# Altium schematic symbol library Schlib1.SchLib: 218 symbols (part 3 of 3)
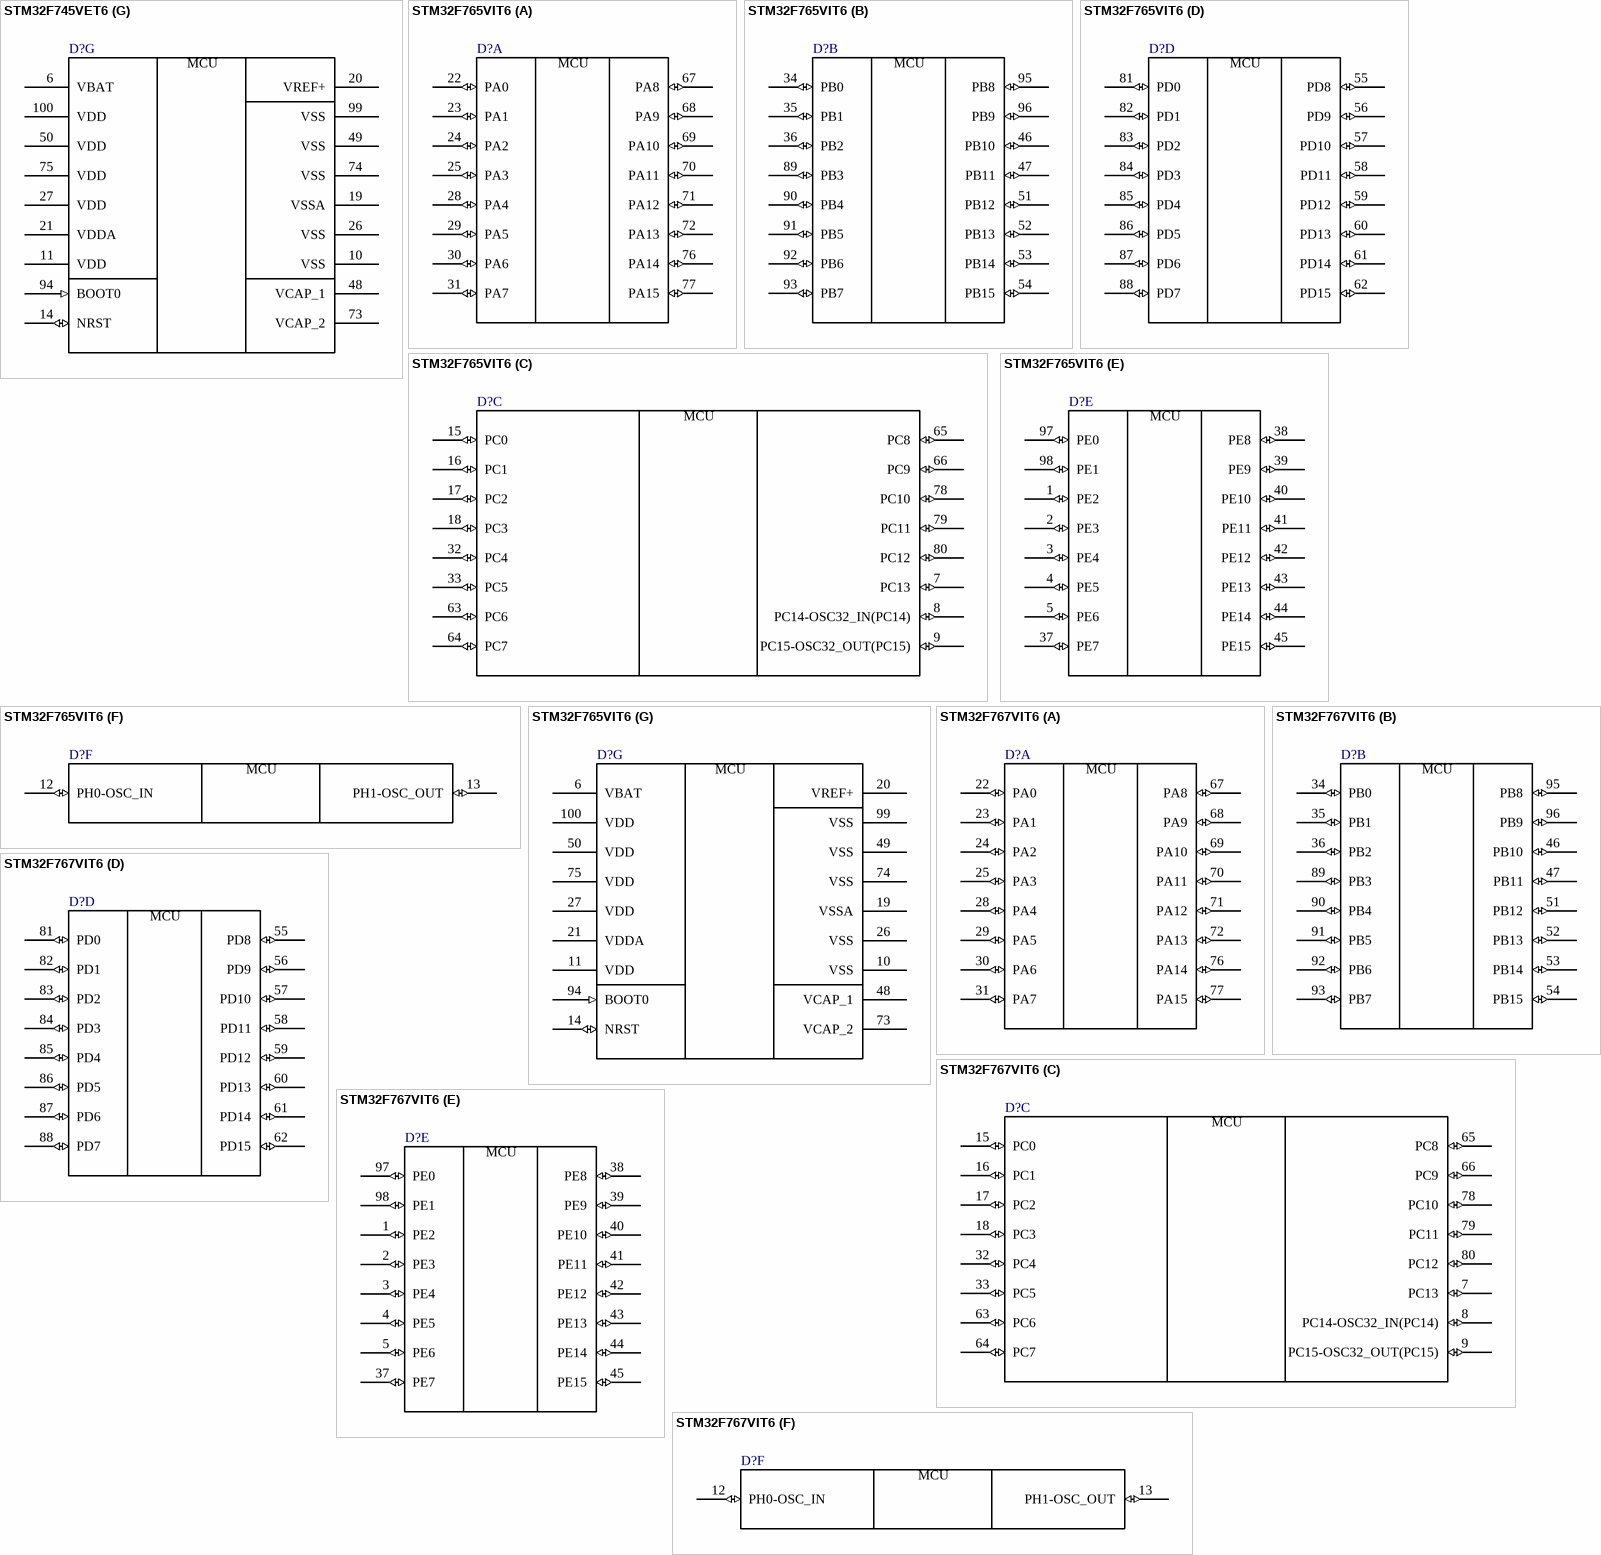
[diagram p19: symbols STM32F745VET6 to STM32F767VIT6]

## STM32F745VET6
designator D?  (value not drawn)
Cortex-M7 32b MCU+FPU, 462DMIPS; Manufacturer: STMicroelectronics; Value: STM32F745VET6
footprint STM-LQFP100 (Thin QFP, 100-Leads, Body 14x14mm, Pitch 0.5mm, IPC High Density)
part A pins: 22 PA0 (io), 23 PA1 (io), 24 PA2 (io), 25 PA3 (io), 28 PA4 (io), 29 PA5 (io), 30 PA6 (io), 31 PA7 (io), 67 PA8 (io), 68 PA9 (io), 69 PA10 (io), 70 PA11 (io), 71 PA12 (io), 72 PA13 (io), 76 PA14 (io), 77 PA15 (io)
part B pins: 34 PB0 (io), 35 PB1 (io), 36 PB2 (io), 46 PB10 (io), 47 PB11 (io), 51 PB12 (io), 52 PB13 (io), 53 PB14 (io), 54 PB15 (io), 89 PB3 (io), 90 PB4 (io), 91 PB5 (io), 92 PB6 (io), 93 PB7 (io), 95 PB8 (io), 96 PB9 (io)
part C pins: 7 PC13 (io), 8 PC14-OSC32_IN(PC14) (io), 9 PC15-OSC32_OUT(PC15) (io), 15 PC0 (io), 16 PC1 (io), 17 PC2 (io), 18 PC3 (io), 32 PC4 (io), 33 PC5 (io), 63 PC6 (io), 64 PC7 (io), 65 PC8 (io), 66 PC9 (io), 78 PC10 (io), 79 PC11 (io), 80 PC12 (io)
part D pins: 55 PD8 (io), 56 PD9 (io), 57 PD10 (io), 58 PD11 (io), 59 PD12 (io), 60 PD13 (io), 61 PD14 (io), 62 PD15 (io), 81 PD0 (io), 82 PD1 (io), 83 PD2 (io), 84 PD3 (io), 85 PD4 (io), 86 PD5 (io), 87 PD6 (io), 88 PD7 (io)
part E pins: 1 PE2 (io), 2 PE3 (io), 3 PE4 (io), 4 PE5 (io), 5 PE6 (io), 37 PE7 (io), 38 PE8 (io), 39 PE9 (io), 40 PE10 (io), 41 PE11 (io), 42 PE12 (io), 43 PE13 (io), 44 PE14 (io), 45 PE15 (io), 97 PE0 (io), 98 PE1 (io)
part F pins: 12 PH0-OSC_IN (io), 13 PH1-OSC_OUT (io)
part G pins: 6 VBAT (power) "Backup power supply", 10 VSS (power), 11 VDD (power), 14 NRST (io) "Device reset input / internal reset output (active low)", 19 VSSA (power) "Analog ground/Negative reference voltage", 20 VREF+ (power) "Positive reference voltage", 21 VDDA (power) "Analog power supply", 26 VSS (power), 27 VDD (power) "Digital power supply", 48 VCAP_1, 49 VSS (power) "Digital ground", 50 VDD (power) "Digital power supply", 73 VCAP_2, 74 VSS (power) "Ground", 75 VDD (power) "Digital power supply", 94 BOOT0 (in) "Boot memory selection", 99 VSS (power) "Ground", 100 VDD (power) "Digital power supply"
part A text: MCU
part B text: MCU
part C text: MCU
part D text: MCU
part E text: MCU
part F text: MCU
part G text: MCU

## STM32F765VIT6
designator D?  (value not drawn)
Cortex-M7 32b MCU+FPU, 462DMIPS; Manufacturer: STMicroelectronics; Value: STM32F765VIT6
footprint STM-LQFP100 (Thin QFP, 100-Leads, Body 14x14mm, Pitch 0.5mm, IPC High Density)
part A pins: 22 PA0 (io), 23 PA1 (io), 24 PA2 (io), 25 PA3 (io), 28 PA4 (io), 29 PA5 (io), 30 PA6 (io), 31 PA7 (io), 67 PA8 (io), 68 PA9 (io), 69 PA10 (io), 70 PA11 (io), 71 PA12 (io), 72 PA13 (io), 76 PA14 (io), 77 PA15 (io)
part B pins: 34 PB0 (io), 35 PB1 (io), 36 PB2 (io), 46 PB10 (io), 47 PB11 (io), 51 PB12 (io), 52 PB13 (io), 53 PB14 (io), 54 PB15 (io), 89 PB3 (io), 90 PB4 (io), 91 PB5 (io), 92 PB6 (io), 93 PB7 (io), 95 PB8 (io), 96 PB9 (io)
part C pins: 7 PC13 (io), 8 PC14-OSC32_IN(PC14) (io), 9 PC15-OSC32_OUT(PC15) (io), 15 PC0 (io), 16 PC1 (io), 17 PC2 (io), 18 PC3 (io), 32 PC4 (io), 33 PC5 (io), 63 PC6 (io), 64 PC7 (io), 65 PC8 (io), 66 PC9 (io), 78 PC10 (io), 79 PC11 (io), 80 PC12 (io)
part D pins: 55 PD8 (io), 56 PD9 (io), 57 PD10 (io), 58 PD11 (io), 59 PD12 (io), 60 PD13 (io), 61 PD14 (io), 62 PD15 (io), 81 PD0 (io), 82 PD1 (io), 83 PD2 (io), 84 PD3 (io), 85 PD4 (io), 86 PD5 (io), 87 PD6 (io), 88 PD7 (io)
part E pins: 1 PE2 (io), 2 PE3 (io), 3 PE4 (io), 4 PE5 (io), 5 PE6 (io), 37 PE7 (io), 38 PE8 (io), 39 PE9 (io), 40 PE10 (io), 41 PE11 (io), 42 PE12 (io), 43 PE13 (io), 44 PE14 (io), 45 PE15 (io), 97 PE0 (io), 98 PE1 (io)
part F pins: 12 PH0-OSC_IN (io), 13 PH1-OSC_OUT (io)
part G pins: 6 VBAT (power) "Backup power supply", 10 VSS (power), 11 VDD (power), 14 NRST (io) "Device reset input / internal reset output (active low)", 19 VSSA (power) "Analog ground/Negative reference voltage", 20 VREF+ (power) "Positive reference voltage", 21 VDDA (power) "Analog power supply", 26 VSS (power), 27 VDD (power) "Digital power supply", 48 VCAP_1, 49 VSS (power) "Digital ground", 50 VDD (power) "Digital power supply", 73 VCAP_2, 74 VSS (power) "Ground", 75 VDD (power) "Digital power supply", 94 BOOT0 (in) "Boot memory selection", 99 VSS (power) "Ground", 100 VDD (power) "Digital power supply"
part A text: MCU
part B text: MCU
part C text: MCU
part D text: MCU
part E text: MCU
part F text: MCU
part G text: MCU

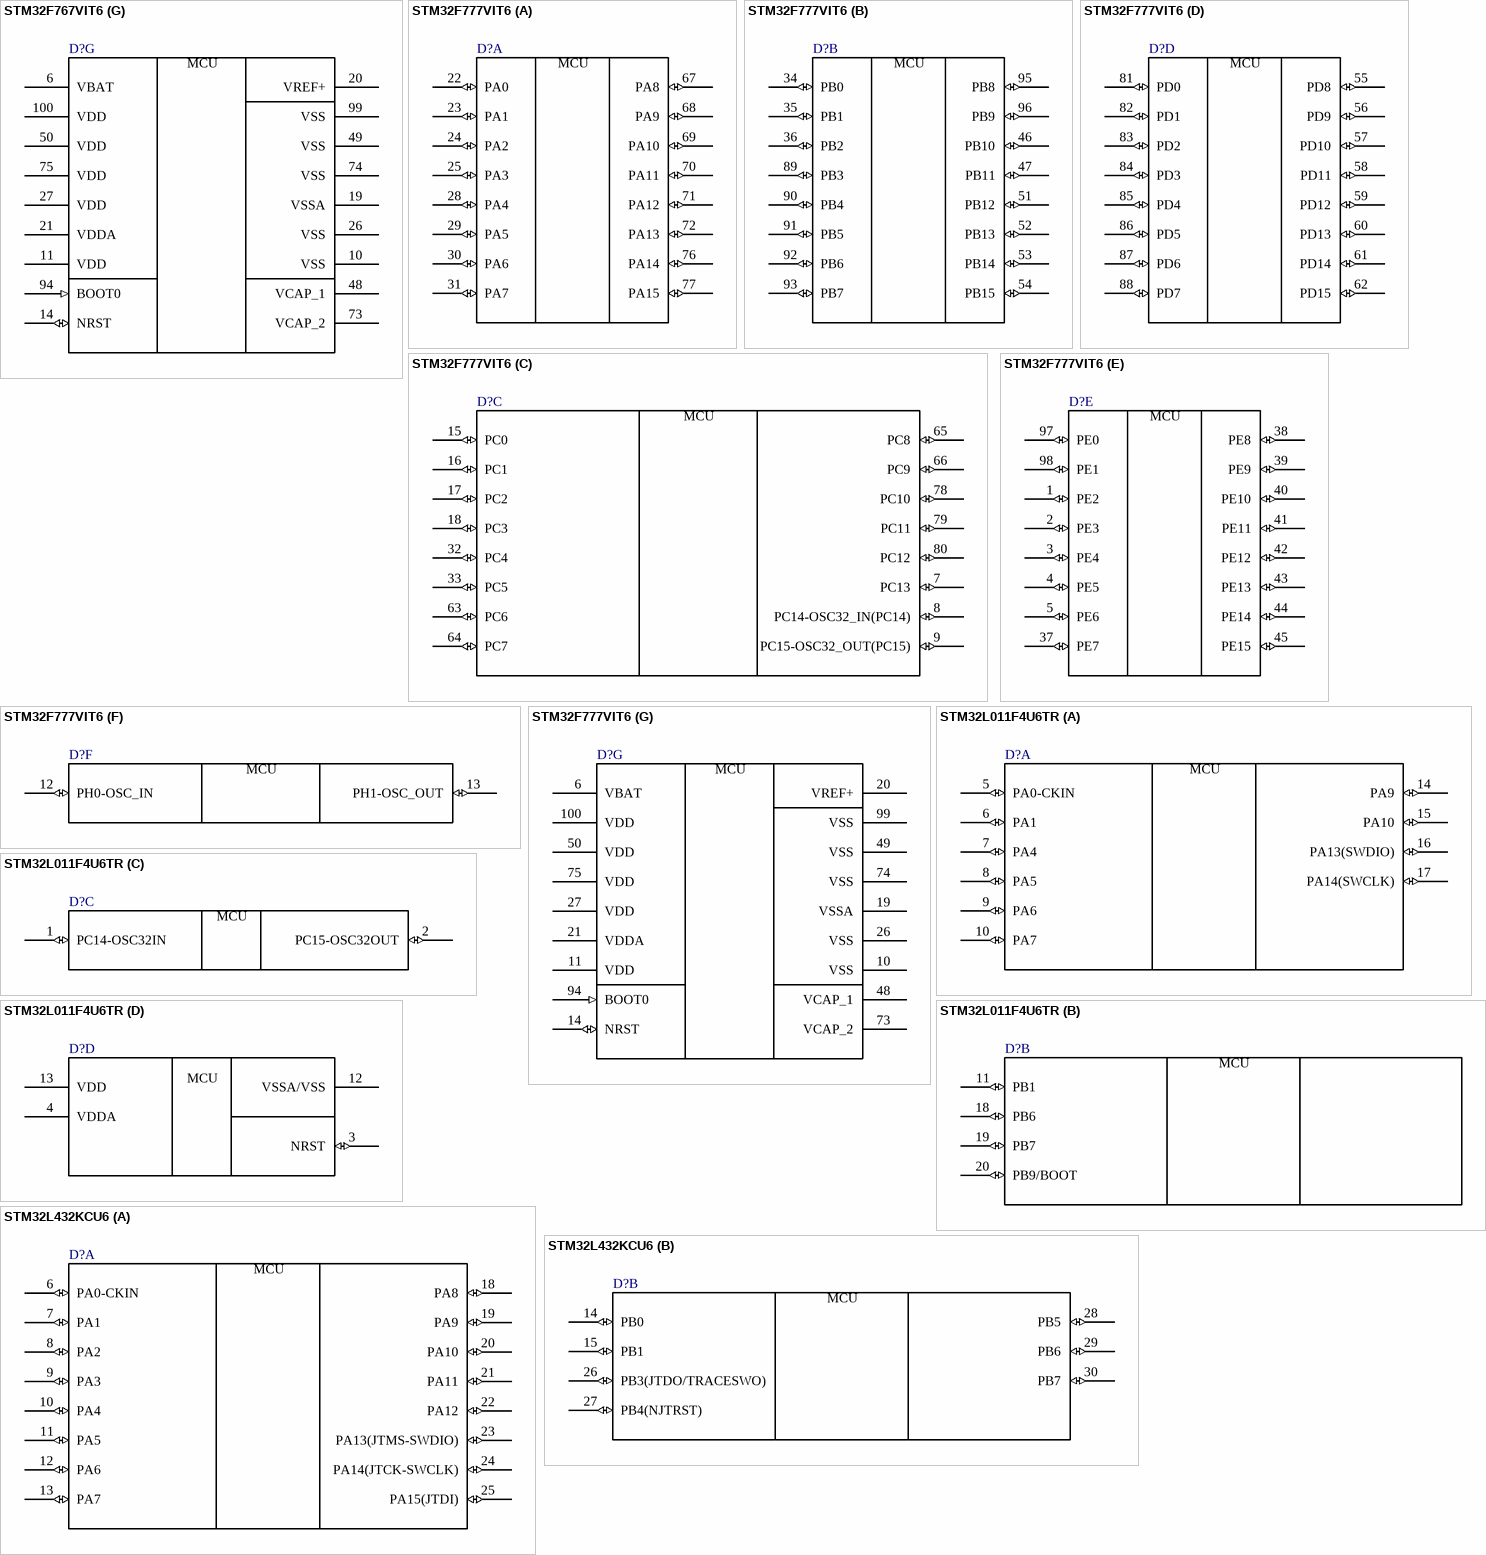
[diagram p14: symbols STM32F767VIT6 to STM32L432KCU6]

## STM32F767VIT6
designator D?  (value not drawn)
Cortex-M7 32b MCU+FPU, 462DMIPS; Manufacturer: STMicroelectronics; Value: STM32F767VIT6
footprint STM-LQFP100 (Thin QFP, 100-Leads, Body 14x14mm, Pitch 0.5mm, IPC High Density)
part A pins: 22 PA0 (io), 23 PA1 (io), 24 PA2 (io), 25 PA3 (io), 28 PA4 (io), 29 PA5 (io), 30 PA6 (io), 31 PA7 (io), 67 PA8 (io), 68 PA9 (io), 69 PA10 (io), 70 PA11 (io), 71 PA12 (io), 72 PA13 (io), 76 PA14 (io), 77 PA15 (io)
part B pins: 34 PB0 (io), 35 PB1 (io), 36 PB2 (io), 46 PB10 (io), 47 PB11 (io), 51 PB12 (io), 52 PB13 (io), 53 PB14 (io), 54 PB15 (io), 89 PB3 (io), 90 PB4 (io), 91 PB5 (io), 92 PB6 (io), 93 PB7 (io), 95 PB8 (io), 96 PB9 (io)
part C pins: 7 PC13 (io), 8 PC14-OSC32_IN(PC14) (io), 9 PC15-OSC32_OUT(PC15) (io), 15 PC0 (io), 16 PC1 (io), 17 PC2 (io), 18 PC3 (io), 32 PC4 (io), 33 PC5 (io), 63 PC6 (io), 64 PC7 (io), 65 PC8 (io), 66 PC9 (io), 78 PC10 (io), 79 PC11 (io), 80 PC12 (io)
part D pins: 55 PD8 (io), 56 PD9 (io), 57 PD10 (io), 58 PD11 (io), 59 PD12 (io), 60 PD13 (io), 61 PD14 (io), 62 PD15 (io), 81 PD0 (io), 82 PD1 (io), 83 PD2 (io), 84 PD3 (io), 85 PD4 (io), 86 PD5 (io), 87 PD6 (io), 88 PD7 (io)
part E pins: 1 PE2 (io), 2 PE3 (io), 3 PE4 (io), 4 PE5 (io), 5 PE6 (io), 37 PE7 (io), 38 PE8 (io), 39 PE9 (io), 40 PE10 (io), 41 PE11 (io), 42 PE12 (io), 43 PE13 (io), 44 PE14 (io), 45 PE15 (io), 97 PE0 (io), 98 PE1 (io)
part F pins: 12 PH0-OSC_IN (io), 13 PH1-OSC_OUT (io)
part G pins: 6 VBAT (power) "Backup power supply", 10 VSS (power), 11 VDD (power), 14 NRST (io) "Device reset input / internal reset output (active low)", 19 VSSA (power) "Analog ground/Negative reference voltage", 20 VREF+ (power) "Positive reference voltage", 21 VDDA (power) "Analog power supply", 26 VSS (power), 27 VDD (power) "Digital power supply", 48 VCAP_1, 49 VSS (power) "Digital ground", 50 VDD (power) "Digital power supply", 73 VCAP_2, 74 VSS (power) "Ground", 75 VDD (power) "Digital power supply", 94 BOOT0 (in) "Boot memory selection", 99 VSS (power) "Ground", 100 VDD (power) "Digital power supply"
part A text: MCU
part B text: MCU
part C text: MCU
part D text: MCU
part E text: MCU
part F text: MCU
part G text: MCU

## STM32F777VIT6
designator D?  (value not drawn)
Cortex-M7 32b MCU+FPU, 462DMIPS; Manufacturer: STMicroelectronics; Value: STM32F777VIT6
footprint STM-LQFP100 (Thin QFP, 100-Leads, Body 14x14mm, Pitch 0.5mm, IPC High Density)
part A pins: 22 PA0 (io), 23 PA1 (io), 24 PA2 (io), 25 PA3 (io), 28 PA4 (io), 29 PA5 (io), 30 PA6 (io), 31 PA7 (io), 67 PA8 (io), 68 PA9 (io), 69 PA10 (io), 70 PA11 (io), 71 PA12 (io), 72 PA13 (io), 76 PA14 (io), 77 PA15 (io)
part B pins: 34 PB0 (io), 35 PB1 (io), 36 PB2 (io), 46 PB10 (io), 47 PB11 (io), 51 PB12 (io), 52 PB13 (io), 53 PB14 (io), 54 PB15 (io), 89 PB3 (io), 90 PB4 (io), 91 PB5 (io), 92 PB6 (io), 93 PB7 (io), 95 PB8 (io), 96 PB9 (io)
part C pins: 7 PC13 (io), 8 PC14-OSC32_IN(PC14) (io), 9 PC15-OSC32_OUT(PC15) (io), 15 PC0 (io), 16 PC1 (io), 17 PC2 (io), 18 PC3 (io), 32 PC4 (io), 33 PC5 (io), 63 PC6 (io), 64 PC7 (io), 65 PC8 (io), 66 PC9 (io), 78 PC10 (io), 79 PC11 (io), 80 PC12 (io)
part D pins: 55 PD8 (io), 56 PD9 (io), 57 PD10 (io), 58 PD11 (io), 59 PD12 (io), 60 PD13 (io), 61 PD14 (io), 62 PD15 (io), 81 PD0 (io), 82 PD1 (io), 83 PD2 (io), 84 PD3 (io), 85 PD4 (io), 86 PD5 (io), 87 PD6 (io), 88 PD7 (io)
part E pins: 1 PE2 (io), 2 PE3 (io), 3 PE4 (io), 4 PE5 (io), 5 PE6 (io), 37 PE7 (io), 38 PE8 (io), 39 PE9 (io), 40 PE10 (io), 41 PE11 (io), 42 PE12 (io), 43 PE13 (io), 44 PE14 (io), 45 PE15 (io), 97 PE0 (io), 98 PE1 (io)
part F pins: 12 PH0-OSC_IN (io), 13 PH1-OSC_OUT (io)
part G pins: 6 VBAT (power) "Backup power supply", 10 VSS (power), 11 VDD (power), 14 NRST (io) "Device reset input / internal reset output (active low)", 19 VSSA (power) "Analog ground/Negative reference voltage", 20 VREF+ (power) "Positive reference voltage", 21 VDDA (power) "Analog power supply", 26 VSS (power), 27 VDD (power) "Digital power supply", 48 VCAP_1, 49 VSS (power) "Digital ground", 50 VDD (power) "Digital power supply", 73 VCAP_2, 74 VSS (power) "Ground", 75 VDD (power) "Digital power supply", 94 BOOT0 (in) "Boot memory selection", 99 VSS (power) "Ground", 100 VDD (power) "Digital power supply"
part A text: MCU
part B text: MCU
part C text: MCU
part D text: MCU
part E text: MCU
part F text: MCU
part G text: MCU

## STM32L011F4U6TR
designator D?  (value not drawn)
Manufacturer: STMicroelectronics; Value: STM32L011F4U6TR
footprint STM32L011F4U6TR (ST UFQFPN20)
part A pins: 5 PA0-CKIN (io), 6 PA1 (io), 7 PA4 (io), 8 PA5 (io), 9 PA6 (io), 10 PA7 (io), 14 PA9 (io), 15 PA10 (io), 16 PA13(SWDIO) (io), 17 PA14(SWCLK) (io)
part B pins: 11 PB1 (io), 18 PB6 (io), 19 PB7 (io), 20 PB9/BOOT (io)
part C pins: 1 PC14-OSC32IN (io), 2 PC15-OSC32OUT (io)
part D pins: 3 NRST (io), 4 VDDA (power), 12 VSSA/VSS (power), 13 VDD (power)
part A text: MCU
part B text: MCU
part C text: MCU
part D text: MCU

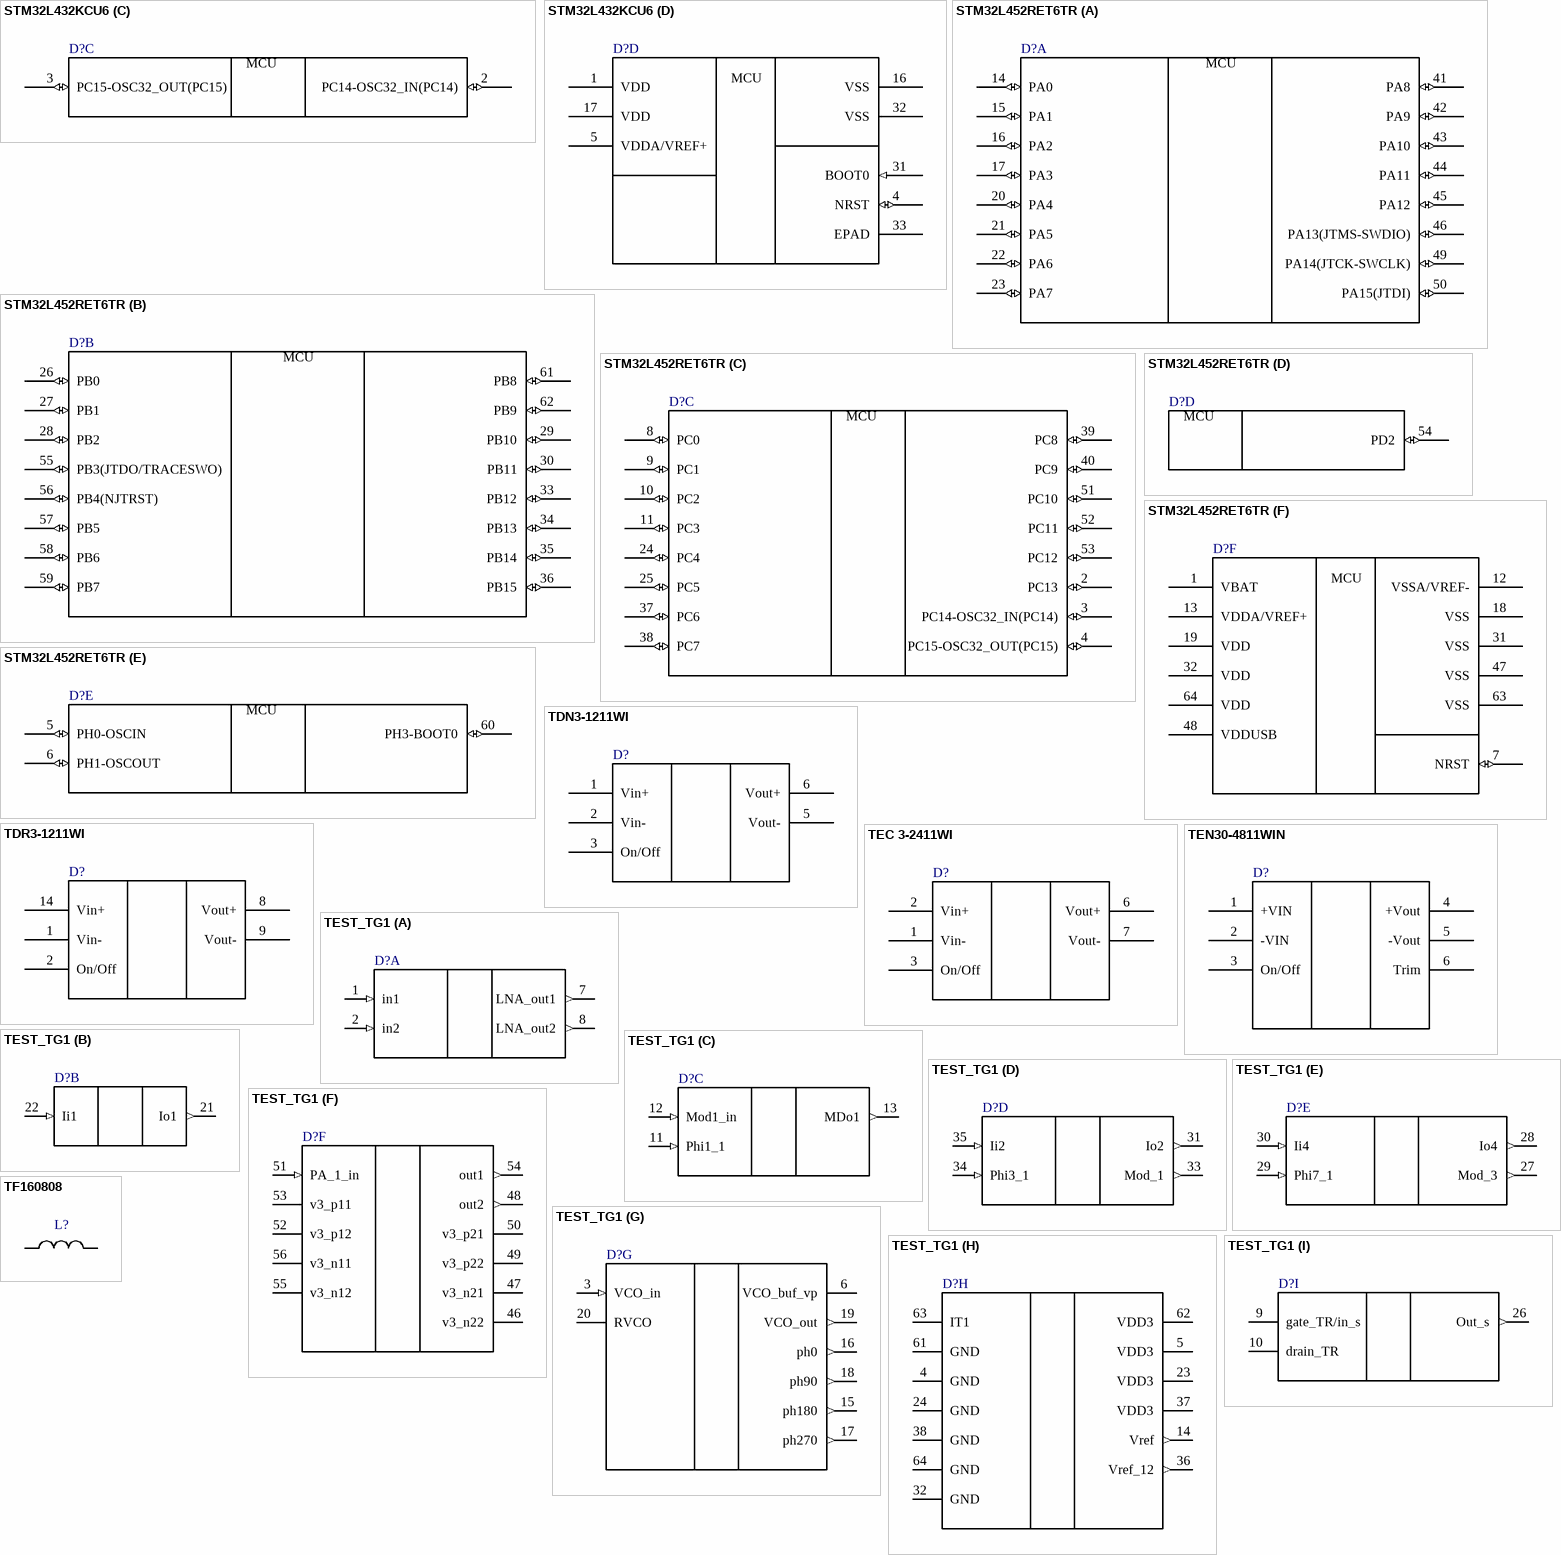
[diagram p15: symbols STM32L432KCU6 to TF160808]

## STM32L432KCU6
designator D?  (value not drawn)
Manufacturer: STMicroelectronics; Value: STM32L432KCU6
footprint ST_UFQFPN32 (QFN, 32-Leads, Body 5.00x5.00mm, Pitch 0.50mm, Thermal Pad 3.45x3.45mm, IPC High Density)
part A pins: 6 PA0-CKIN (io), 7 PA1 (io), 8 PA2 (io), 9 PA3 (io), 10 PA4 (io), 11 PA5 (io), 12 PA6 (io), 13 PA7 (io), 18 PA8 (io), 19 PA9 (io), 20 PA10 (io), 21 PA11 (io), 22 PA12 (io), 23 PA13(JTMS-SWDIO) (io), 24 PA14(JTCK-SWCLK) (io), 25 PA15(JTDI) (io)
part B pins: 14 PB0 (io), 15 PB1 (io), 26 PB3(JTDO/TRACESWO) (io), 27 PB4(NJTRST) (io), 28 PB5 (io), 29 PB6 (io), 30 PB7 (io)
part C pins: 2 PC14-OSC32_IN(PC14) (io), 3 PC15-OSC32_OUT(PC15) (io)
part D pins: 1 VDD (power), 4 NRST (io), 5 VDDA/VREF+ (power), 16 VSS (power), 17 VDD (power), 31 BOOT0 (in), 32 VSS (power), 33 EPAD
part A text: MCU
part B text: MCU
part C text: MCU
part D text: MCU

## STM32L452RET6TR
designator D?  (value not drawn)
Manufacturer: STMicroelectronics; Value: STM32L452RET6TR
footprint ST_LQFP64 (TSQFP, 64-Leads, Body 10.00x10.00mm, Pitch 0.50mm, IPC High Density)
part A pins: 14 PA0 (io), 15 PA1 (io), 16 PA2 (io), 17 PA3 (io), 20 PA4 (io), 21 PA5 (io), 22 PA6 (io), 23 PA7 (io), 41 PA8 (io), 42 PA9 (io), 43 PA10 (io), 44 PA11 (io), 45 PA12 (io), 46 PA13(JTMS-SWDIO) (io), 49 PA14(JTCK-SWCLK) (io), 50 PA15(JTDI) (io)
part B pins: 26 PB0 (io), 27 PB1 (io), 28 PB2 (io), 29 PB10 (io), 30 PB11 (io), 33 PB12 (io), 34 PB13 (io), 35 PB14 (io), 36 PB15 (io), 55 PB3(JTDO/TRACESWO) (io), 56 PB4(NJTRST) (io), 57 PB5 (io), 58 PB6 (io), 59 PB7 (io), 61 PB8 (io), 62 PB9 (io)
part C pins: 2 PC13 (io), 3 PC14-OSC32_IN(PC14) (io), 4 PC15-OSC32_OUT(PC15) (io), 8 PC0 (io), 9 PC1 (io), 10 PC2 (io), 11 PC3 (io), 24 PC4 (io), 25 PC5 (io), 37 PC6 (io), 38 PC7 (io), 39 PC8 (io), 40 PC9 (io), 51 PC10 (io), 52 PC11 (io), 53 PC12 (io)
part D pins: 54 PD2 (io)
part E pins: 5 PH0-OSCIN (io), 6 PH1-OSCOUT (io), 60 PH3-BOOT0 (io)
part F pins: 1 VBAT (power), 7 NRST (io), 12 VSSA/VREF- (power), 13 VDDA/VREF+ (power), 18 VSS (power), 19 VDD (power), 31 VSS (power), 32 VDD (power), 47 VSS (power), 48 VDDUSB (power), 63 VSS (power), 64 VDD (power)
part A text: MCU
part B text: MCU
part C text: MCU
part D text: MCU
part E text: MCU
part F text: MCU

## TDN3-1211WI
designator D?  (value not drawn)
Manufacturer: TRACOPOWER; Value: TDN3-1211WI
footprint TDN3-1211WI_new
pins: 1 Vin+ (power), 2 Vin- (power), 3 On/Off, 4 NC hidden, 5 Vout- (power), 6 Vout+ (power)

## TDR3-1211WI
designator D?  (value not drawn)
Manufacturer: TRACOPOWER; Value: TDR3-1211WI
footprint TDN3-1211WI
pins: 1 Vin- (power), 2 On/Off, 6 NC hidden, 7 NC hidden, 8 Vout+ (power), 9 Vout- (power), 14 Vin+ (power)

## TEC 3-2411WI
designator D?  (value not drawn)
Manufacturer: TRACOPOWER; Value: TEC 3-2411WI
footprint TEC 3-2411WI
pins: 1 Vin- (power), 2 Vin+ (power), 3 On/Off, 5 NC hidden, 6 Vout+ (power), 7 Vout- (power), 8 NC hidden

## TEN30-4811WIN
designator D?  (value not drawn)
Manufacturer: Traco Power; Value: TEN30-4811WIN
footprint TEN 30-4811WIN
pins: 1 +VIN (power), 2 -VIN (power), 3 On/Off, 4 +Vout (power), 5 -Vout (power), 6 Trim

## TEST_TG1
designator D?  (value not drawn)
Manufacturer: Micron; Value: TEST_TG1
footprint H18.64 (CQFP, 64-Leads, Body 23.00x23.00mm, Pitch 1.00mm, IPC Medium Density)
part A pins: 1 in1 (in), 2 in2 (in), 7 LNA_out1 (out), 8 LNA_out2 (out)
part B pins: 21 Io1 (out), 22 Ii1 (in)
part C pins: 11 Phi1_1 (in), 12 Mod1_in (in), 13 MDo1 (out)
part D pins: 31 Io2 (out), 33 Mod_1 (out), 34 Phi3_1 (in), 35 Ii2 (in)
part E pins: 27 Mod_3 (out), 28 Io4 (out), 29 Phi7_1 (in), 30 Ii4 (in)
part F pins: 46 v3_n22, 47 v3_n21, 48 out2 (out), 49 v3_p22, 50 v3_p21, 51 PA_1_in (in), 52 v3_p12, 53 v3_p11, 54 out1 (out), 55 v3_n12, 56 v3_n11
part G pins: 3 VCO_in (in), 6 VCO_buf_vp (power), 15 ph180 (out), 16 ph0 (out), 17 ph270 (out), 18 ph90 (out), 19 VCO_out (out), 20 RVCO
part H pins: 4 GND (power), 5 VDD3 (power), 14 Vref (out), 23 VDD3 (power), 24 GND (power), 32 GND (power), 36 Vref_12 (out), 37 VDD3 (power), 38 GND (power), 61 GND (power), 62 VDD3 (power), 63 IT1, 64 GND (power)
part I pins: 9 gate_TR/in_s, 10 drain_TR, 26 Out_s (out)

## TF160808
designator L?  (value not drawn)
Chip inductor 1608; Manufacturer: СМП; ValueComment: 2N2K; Value: TF160808
footprint TF160808 (Chip Inductor, 2-Leads, Body 1.60x0.80mm, IPC High Density)
pins: 1, 2

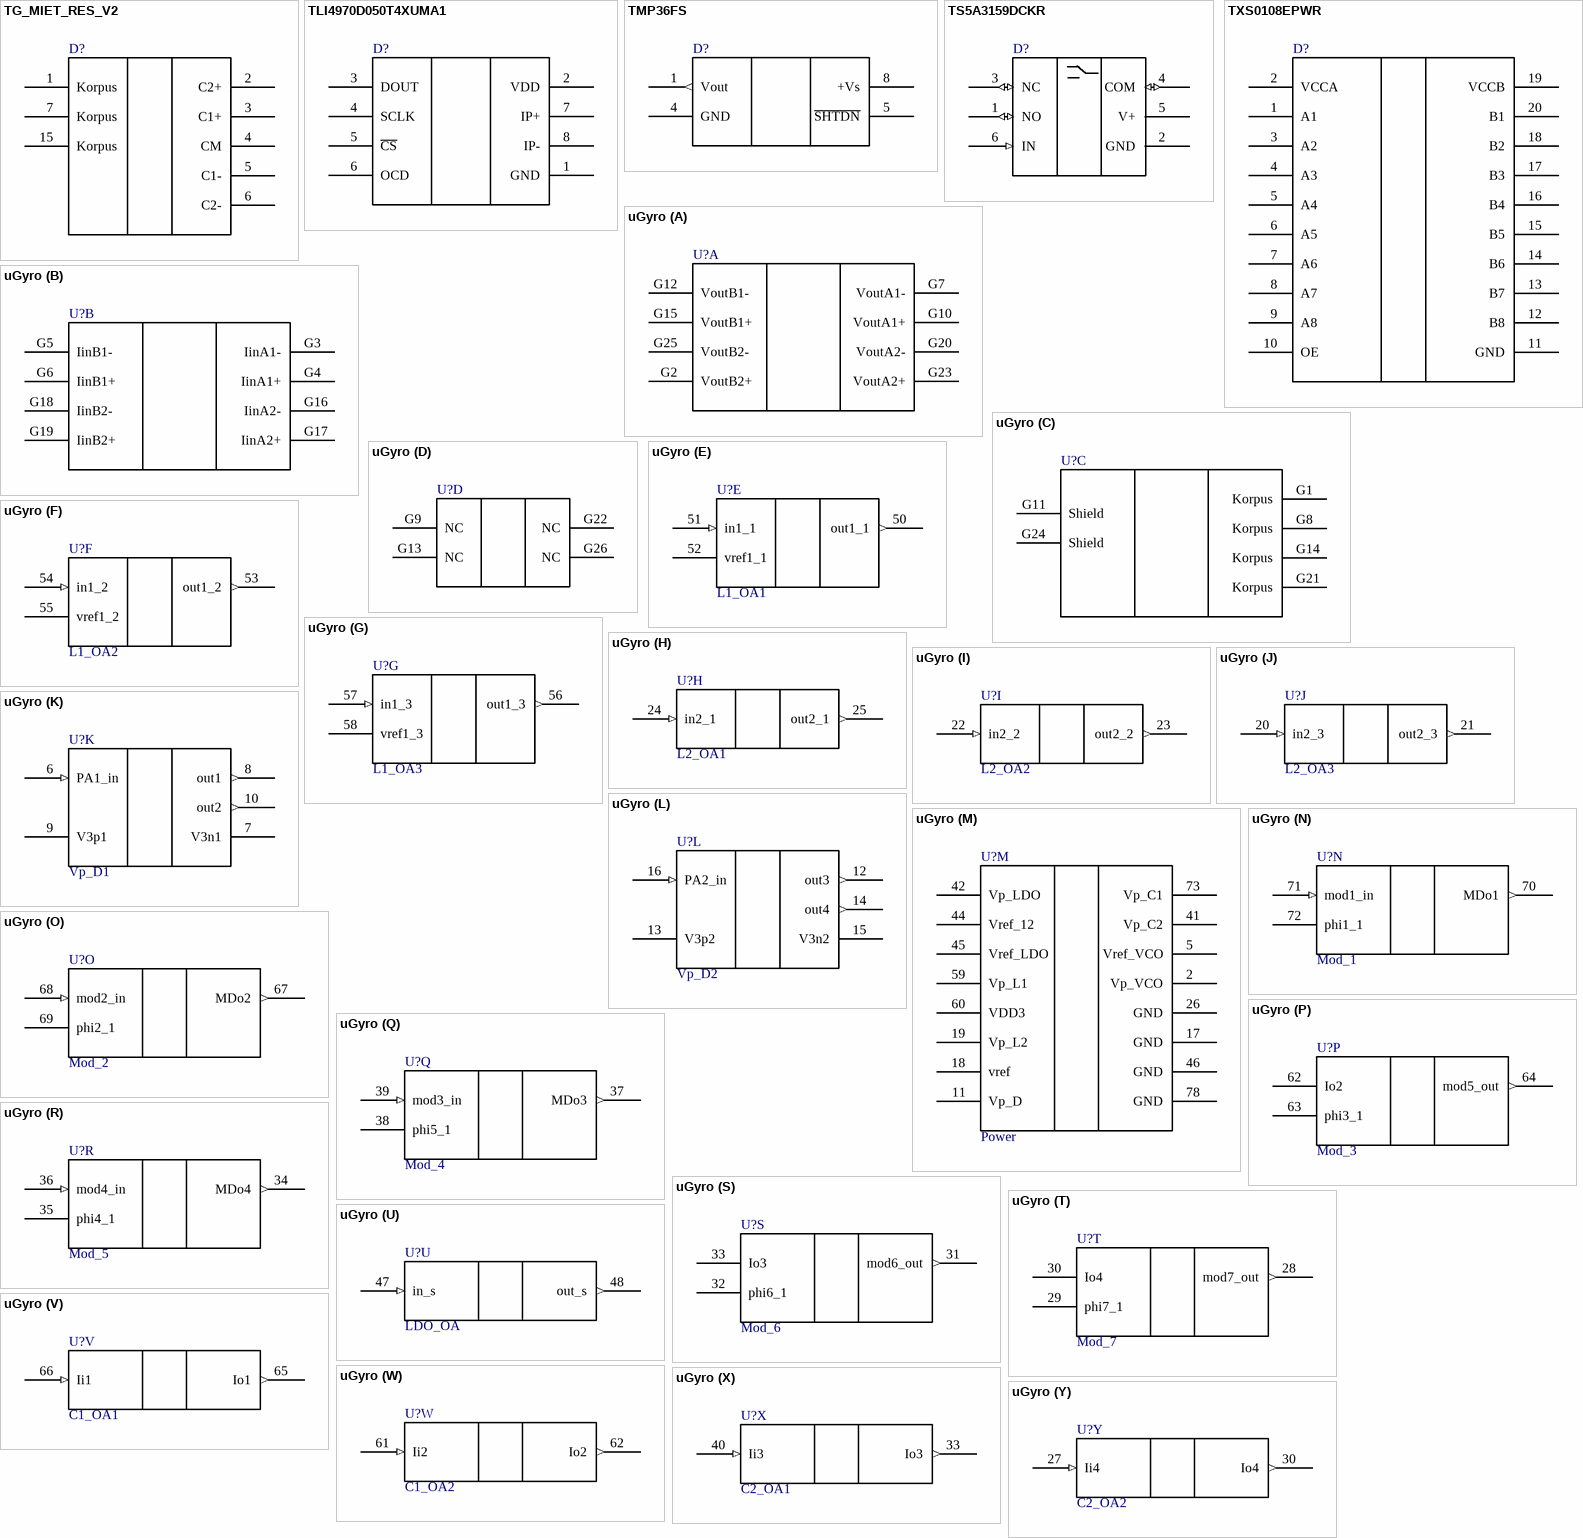
[diagram p16: symbols TG_MIET_RES_V2 to uGyro]

## TG_MIET_RES_V2
designator D?  (value not drawn)
Value: TG_MIET_RES_V2
footprint 151.15-8
pins: 1 Korpus, 2 C2+, 3 C1+, 4 CM, 5 C1-, 6 C2-, 7 Korpus, 15 Korpus

## TLI4970D050T4XUMA1
designator D?  (value not drawn)
Manufacturer: Infineon; Value: TLI4970D050T4XUMA1
footprint TLI4970D050T4XUMA1
pins: 1 GND (power), 2 VDD (power), 3 DOUT, 4 SCLK, 5 ~{CS}, 6 OCD, 7 IP+, 8 IP-

## TMP36FS
designator D?  (value not drawn)
Manufacturer: Analog Devices; Value: TMP36FS
footprint ADI_SOIC-8_R-8 (SOIC, 8-Leads, Body 4.90x3.90mm, Pitch 1.27mm, IPC High Density)
pins: 1 Vout (out), 2 NC hidden, 3 NC hidden, 4 GND (power), 5 ~{SHTDN}, 6 NC hidden, 7 NC hidden, 8 +Vs (power)

## TS5A3159DCKR
designator D?  (value not drawn)
Manufacturer: Texas Instruments; Value: TS5A3159DCKR
footprint TS5A3159DCKR (SOT23, 6-Leads, Body 2.00x2.10mm, Pitch 0.65mm, IPC High Density)
pins: 1 NO (io), 2 GND (power), 3 NC (io), 4 COM (io), 5 V+ (power), 6 IN (in)

## TXS0108EPWR
designator D?  (value not drawn)
Manufacturer: Texas Instruments; Value: TXS0108EPWR
footprint TXS0108EPWR (TSOP, 20-Leads, Body 6.50x4.40mm, Pitch 0.65mm, IPC High Density)
pins: 1 A1, 2 VCCA (power), 3 A2, 4 A3, 5 A4, 6 A5, 7 A6, 8 A7, 9 A8, 10 OE, 11 GND (power), 12 B8, 13 B7, 14 B6, 15 B5, 16 B4, 17 B3, 18 B2, 19 VCCB (power), 20 B1

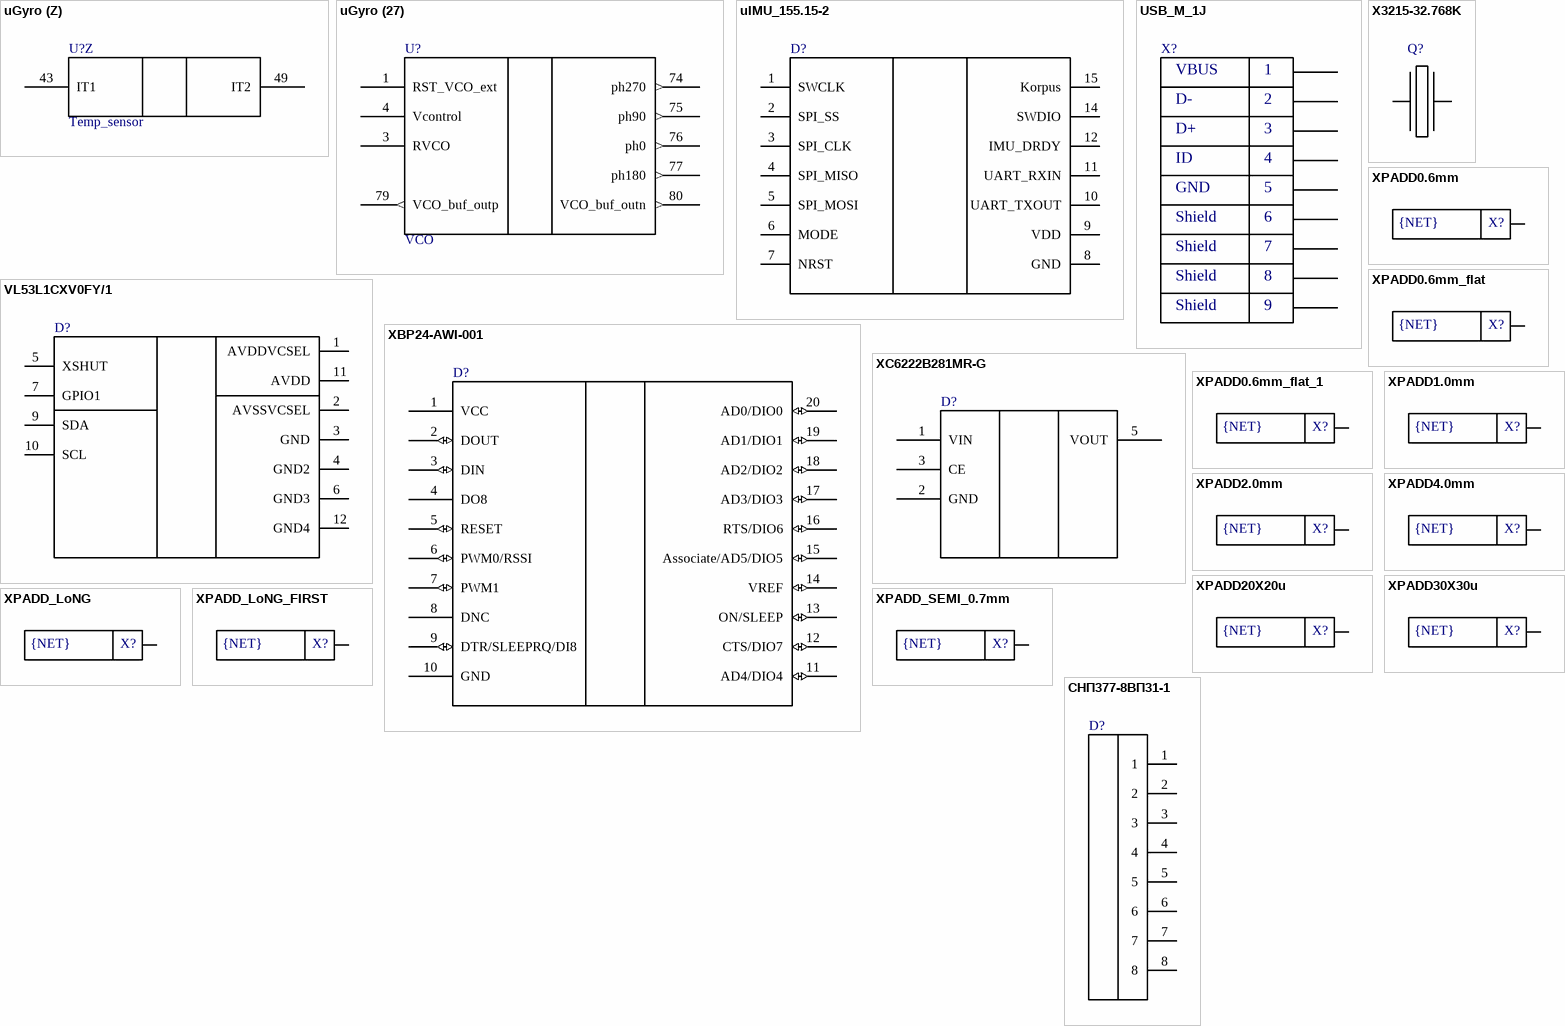
[diagram p17: symbols uGyro to СНП377-8ВП31-1]

## uGyro
designator U?, comment MMGK_1409.26-1H_Micron  (value not drawn)
micro gyro; Manufacturer: MIET; Value: MMGK_1409.26-1H_Micron
footprint UASIC_GYRO
part A pins: G2 VoutB2+, G7 VoutA1-, G10 VoutA1+, G12 VoutB1-, G15 VoutB1+, G20 VoutA2-, G23 VoutA2+, G25 VoutB2-
part B pins: G3 IinA1-, G4 IinA1+, G5 IinB1-, G6 IinB1+, G16 IinA2-, G17 IinA2+, G18 IinB2-, G19 IinB2+
part C pins: G1 Korpus, G8 Korpus, G11 Shield, G14 Korpus, G21 Korpus, G24 Shield
part D pins: G9 NC, G13 NC, G22 NC, G26 NC
part E pins: 50 out1_1 (out), 51 in1_1 (in), 52 vref1_1
part F pins: 53 out1_2 (out), 54 in1_2 (in), 55 vref1_2
part G pins: 56 out1_3 (out), 57 in1_3 (in), 58 vref1_3
part H pins: 24 in2_1 (in), 25 out2_1 (out)
part I pins: 22 in2_2 (in), 23 out2_2 (out)
part J pins: 20 in2_3 (in), 21 out2_3 (out)
part K pins: 6 PA1_in (in), 7 V3n1 (power), 8 out1 (out), 9 V3p1 (power), 10 out2 (out)
part L pins: 12 out3 (out), 13 V3p2 (power), 14 out4 (out), 15 V3n2 (power), 16 PA2_in (in)
part M pins: 2 Vp_VCO (power), 5 Vref_VCO, 11 Vp_D (power), 17 GND (power), 18 vref, 19 Vp_L2, 26 GND (power), 41 Vp_C2, 42 Vp_LDO (power), 44 Vref_12, 45 Vref_LDO, 46 GND (power), 59 Vp_L1 (power), 60 VDD3 (power), 73 Vp_C1, 78 GND (power)
part N pins: 70 MDo1 (out), 71 mod1_in (in), 72 phi1_1
part O pins: 67 MDo2 (out), 68 mod2_in (in), 69 phi2_1
part P pins: 62 Io2, 63 phi3_1, 64 mod5_out (out)
part Q pins: 37 MDo3 (out), 38 phi5_1, 39 mod3_in (in)
part R pins: 34 MDo4 (out), 35 phi4_1, 36 mod4_in (in)
part S pins: 31 mod6_out (out), 32 phi6_1, 33 Io3
part T pins: 28 mod7_out (out), 29 phi7_1, 30 Io4
part U pins: 47 in_s (in), 48 out_s (out)
part V pins: 65 Io1 (out), 66 Ii1 (in)
part W pins: 61 Ii2 (in), 62 Io2 (out)
part X pins: 33 Io3 (out), 40 Ii3 (in)
part Y pins: 27 Ii4 (in), 30 Io4 (out)
part Z pins: 43 IT1, 49 IT2
part 27 pins: 1 RST_VCO_ext, 3 RVCO, 4 Vcontrol, 74 ph270 (out), 75 ph90 (out), 76 ph0 (out), 77 ph180 (out), 79 VCO_buf_outp (out), 80 VCO_buf_outn (out)
part E text: L1_OA1
part F text: L1_OA2
part G text: L1_OA3
part H text: L2_OA1
part I text: L2_OA2
part J text: L2_OA3
part K text: Vp_D1
part L text: Vp_D2
part M text: Power
part N text: Mod_1
part O text: Mod_2
part P text: Mod_3
part Q text: Mod_4
part R text: Mod_5
part S text: Mod_6
part T text: Mod_7
part U text: LDO_OA
part V text: C1_OA1
part W text: C1_OA2
part X text: C2_OA1
part Y text: C2_OA2
part Z text: Temp_sensor
part 27 text: VCO

## uIMU_155.15-2
designator D?, comment DUS-3-xxx  (value not drawn)
Value: DUS-3-xxx
footprint uIMU
pins: 1 SWCLK, 2 SPI_SS, 3 SPI_CLK, 4 SPI_MISO, 5 SPI_MOSI, 6 MODE, 7 NRST, 8 GND, 9 VDD, 10 UART_TXOUT, 11 UART_RXIN, 12 IMU_DRDY, 13 NC hidden, 14 SWDIO, 15 Korpus

## USB_M_1J
designator X?  (value not drawn)
USB On-The-Go (OTG) Mini-B Receptacle, Right Angle, Thru-Hole, 0.80mm (.031") Pitch, Solder Tails & Shell Tabs with Dimples; PCB_Layout: Complies with Manufacturer's Recommendation.; Published: 30-May-2008; DatasheetVersion: rev0, Mar-2004; PackageVersion: rev0, Mar-2004; PackageReference: 5000750517; Publisher: Altium Limited; PackageDescription: USB Mini-B, Type 2, Thru-Hole; 5 Position; Vertical, Body 7.7 x 4.2 x 7.7 mm (LxWxH); ComponentLink1Description: Manufacturer Link; ComponentLink1URL: http://www.molex.com/; ComponentLink2Description: Datasheet; ComponentLink2URL: http://www.molex.com/pdm_docs/sd/5000750517_sd.pdf; Value: USB_M_1J
footprint USB_M_1J (mini USB connector)
pins: 1 V BUS "USB Vcc [Red]", 2 D- "USB Data - [White]", 3 D+ "USB Data + [Green]", 4 ID, 5 GND "Ground [Black]", 6 MH1 "Shell", 7 MH2 "Shell", 8 MH3 "Shell", 9 MH4 "Shell"
text: VBUS; Shield

## VL53L1CXV0FY/1
designator D?  (value not drawn)
Manufacturer: STMicroelectronics; Value: VL53L1CXV0FY/1
footprint VL53L1X
pins: 1 AVDDVCSEL (power), 2 AVSSVCSEL (power), 3 GND (power), 4 GND2 (power), 5 XSHUT, 6 GND3 (power), 7 GPIO1, 8 DNC (power) hidden, 9 SDA, 10 SCL, 11 AVDD (power), 12 GND4 (power)

## X3215-32.768K
designator Q?  (value not drawn)
Manufacturer: СМП; Value: X3215-32.768K
footprint X3215-32.768K (2-Leads, Body 1.50x3.20mm, Pitch 2.45mm, IPC High Density)
pins: 1, 2

## XBP24-AWI-001
designator D?  (value not drawn)
XBee Pro 2.4GHz S1; Manufacturer: Digi; Value: XBP24-AWI-001
footprint XBP24-AWI-001
pins: 1 VCC (power), 2 DOUT (io), 3 DIN (io), 4 DO8, 5 RESET (io), 6 PWM0/RSSI (io), 7 PWM1 (io), 8 DNC, 9 DTR/SLEEPRQ/DI8 (io), 10 GND (power), 11 AD4/DIO4 (io), 12 CTS/DIO7 (io), 13 ON/SLEEP (io), 14 VREF (io), 15 Associate/AD5/DIO5 (io), 16 RTS/DIO6 (io), 17 AD3/DIO3 (io), 18 AD2/DIO2 (io), 19 AD1/DIO1 (io), 20 AD0/DIO0 (io)

## XC6222B281MR-G
designator D?  (value not drawn)
Manufacturer: TOREX Semiconductor; Value: XC6222B281MR-G
footprint XC6222B281MR-G
pins: 1 VIN (power), 2 GND (power), 3 CE, 4 NC hidden, 5 VOUT (power)

## XPADD0.6mm
designator X?  NET: {NET}
XPADD0.6mm; ValueComment: контактное поле
footprint XPADD0.6mm
pins: 1 0

## XPADD0.6mm_flat
designator X?  NET: {NET}
XPADD0.6mm_flat; ValueComment: контактное поле
footprint XPADD0.6mm_flat
pins: 1 0

## XPADD0.6mm_flat_1
designator X?  NET: {NET}
XPADD1mm_flat; ValueComment: контактное поле
footprint XPADD1mm_flat
pins: 1 0

## XPADD1.0mm
designator X?  NET: {NET}
XPADD1.0mm; ValueComment: контактное поле
footprint XPADD1.0mm
pins: 1 0

## XPADD2.0mm
designator X?  NET: {NET}
XPADD2.0mm; ValueComment: контактное поле
footprint XPADD2.0mm
pins: 1 0

## XPADD4.0mm
designator X?  NET: {NET}
XPADD4.0mm; ValueComment: контактное поле
footprint XPADD4.0mm
pins: 1 0

## XPADD20X20u
designator X?  NET: {NET}
XPADD20X20u; ValueComment: контактное поле
footprint XPAD20x20u
pins: 1 0

## XPADD30X30u
designator X?  NET: {NET}
XPADD30X30u; ValueComment: контактное поле
footprint XPAD30x30u
pins: 1 0

## XPADD_LoNG
designator X?  NET: {NET}
ValueComment: контактное поле
footprint XPADD0.8mm_flat_long
pins: 1 0

## XPADD_LoNG_FIRST
designator X?  NET: {NET}
ValueComment: контактное поле
footprint XPADD0.8mm_flat_long_first
pins: 1 0

## XPADD_SEMI_0.7mm
designator X?  NET: {NET}
ValueComment: контактное поле
footprint XPADD0.5mm_semi
pins: 1 0

## СНП377-8ВП31-1
designator D?  (value not drawn)
Manufacturer: Электродеталь; Value: СНП377-8ВП31-1
footprint СНП377-8ВП31-1
pins: 1, 2, 3, 4, 5, 6, 7, 8